# Altium schematic symbol library Pi.SchLib: 21 symbols
Pins are listed as number, name and electrical type; pins without a type are passive.

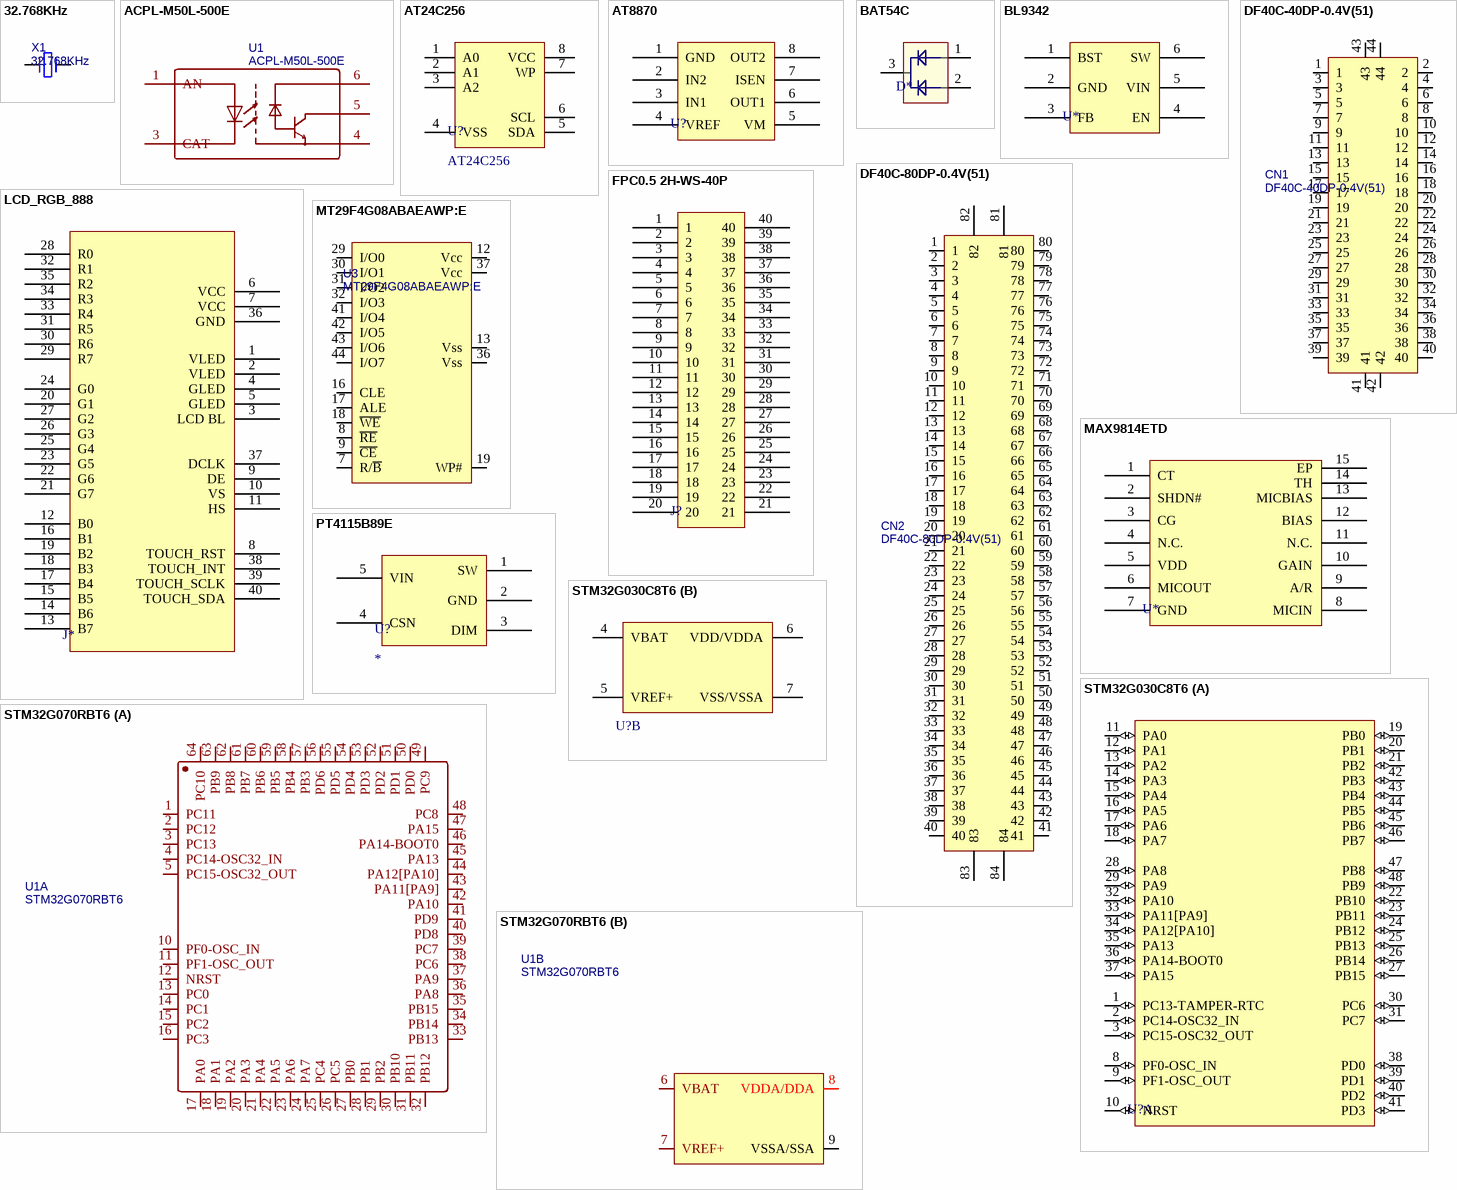
[diagram p0: symbols 32.768KHz to STM32G070RBT6]

## 32.768KHz
designator X1
立创商城:C48615; BOM_Manufacturer Part: Q13FC1350000200; BOM_Manufacturer: EPSON; nameAlias: Frequency; BOM_Supplier: LCSC; BOM_Supplier Part: C48615; BOM_JLCPCB Part Class: Extended Part; spicePre: X; spiceSymbolName: Q13FC1350000200
footprint SMD3215-2P
pins: 1, 2

## ACPL-M50L-500E
designator U1
BOM_Manufacturer: AVAGO; BOM_Supplier: LCSC; BOM_Manufacturer Part: ACPL-M50L-500E; BOM_Supplier Part: C54677; BOM_JLCPCB Part Class: Extended Part; spicePre: U; spiceSymbolName: ACPL-M50L-500E
footprint SO-5
pins: 1 AN, 3 CAT, 4 EM, 5 COL, 6 VCC

## AT24C256
designator U?
EEROM存储器; 联系卖家，免费查找封装: 唯一出售店铺网址https://shop463601444.taobao.com
footprint SOIC-8
pins: 1 A0, 2 A1, 3 A2, 4 VSS, 5 SDA, 6 SCL, 7 WP, 8 VCC

## AT8870
designator U?
footprint ESOP8_L (5*6*1.8mm（长宽高）)
pins: 1 GND, 2 IN2, 3 IN1, 4 VREF, 5 VM, 6 OUT1, 7 ISEN, 8 OUT2

## BAT54C
designator D*  (value not drawn)
两路肖特基二极管
footprint SOT23-3L
pins: 1, 2, 3

## BL9342
designator U*  (value not drawn)
footprint SOT23-6L
pins: 1 BST, 2 GND, 3 FB, 4 EN, 5 VIN, 6 SW

## DF40C-40DP-0.4V(51)
designator CN1
C424643; BOM_Manufacturer: HRS(广濑); Contributor: LCSC; BOM_Supplier: LCSC; BOM_Supplier Part: C424643; BOM_Manufacturer Part: DF40C-40DP-0.4V(51); BOM_JLCPCB Part Class: Extended Part; spicePre: C; spiceSymbolName: DF40C-40DP-0.4V(51)
footprint DF40C-40DP-0.4V
pins: 1, 2, 3, 4, 5, 6, 7, 8, 9, 10, 11, 12, 13, 14, 15, 16, 17, 18, 19, 20, 21, 22, 23, 24, 25, 26, 27, 28, 29, 30, 31, 32, 33, 34, 35, 36, 37, 38, 39, 40, 41, 42, 43, 44

## DF40C-80DP-0.4V(51)
designator CN2
BOM_Manufacturer: HRS(Hirose); Contributor: LCSC; BOM_Supplier: LCSC; BOM_Supplier Part: C294544; BOM_Manufacturer Part: DF40C-80DP-0.4V(51); BOM_JLCPCB Part Class: Extended Part; spicePre: C; spiceSymbolName: DF40C-80DP-0.4V(51)
footprint DF40C-80DP-0.4V
pins: 1, 2, 3, 4, 5, 6, 7, 8, 9, 10, 11, 12, 13, 14, 15, 16, 17, 18, 19, 20, 21, 22, 23, 24, 25, 26, 27, 28, 29, 30, 31, 32, 33, 34, 35, 36, 37, 38, 39, 40, 41, 42, 43, 44, 45, 46, 47, 48, 49, 50, 51, 52, 53, 54, 55, 56, 57, 58, 59, 60, 61, 62, 63, 64, 65, 66, 67, 68, 69, 70, 71, 72, 73, 74, 75, 76, 77, 78, 79, 80, 81, 82, 83, 84

## FPC0.5 2H-WS-40P
designator J?
FPC0.5 2H-WS-40P
footprint FPC0.5 2H-WS-40P
pins: 1, 2, 3, 4, 5, 6, 7, 8, 9, 10, 11, 12, 13, 14, 15, 16, 17, 18, 19, 20, 21, 22, 23, 24, 25, 26, 27, 28, 29, 30, 31, 32, 33, 34, 35, 36, 37, 38, 39, 40

## LCD_RGB_888
designator J*
AT070TN83 或者反客
footprint FPC0.5 2H-WS-40P
pins: 1 VLED, 2 VLED, 3 LCD BL, 4 GLED, 5 GLED, 6 VCC, 7 VCC, 8 TOUCH_RST, 9 DE, 10 VS, 11 HS, 12 B0, 13 B7, 14 B6, 15 B5, 16 B1, 17 B4, 18 B3, 19 B2, 20 G1, 21 G7, 22 G6, 23 G5, 24 G0, 25 G4, 26 G3, 27 G2, 28 R0, 29 R7, 30 R6, 31 R5, 32 R1, 33 R4, 34 R3, 35 R2, 36 GND, 37 DCLK, 38 TOUCH_INT, 39 TOUCH_SCLK, 40 TOUCH_SDA

## MAX9814ETD
designator U*
footprint TDFN-14
pins: 1 CT, 2 SHDN#, 3 CG, 4 N.C., 5 VDD, 6 MICOUT, 7 GND, 8 MICIN, 9 A/R, 10 GAIN, 11 N.C., 12 BIAS, 13 MICBIAS, 14 TH, 15 EP

## MT29F4G08ABAEAWP:E
designator U3
C496612; BOM_Manufacturer: micron(镁光); Contributor: LCSC; BOM_Supplier: LCSC; BOM_Supplier Part: C496612; BOM_Manufacturer Part: MT29F4G08ABAEAWP:E; BOM_JLCPCB Part Class: Extended Part; spicePre: U; spiceSymbolName: MT29F4G08ABAEAWP:E
footprint TSOP-48
pins: 1 NC hidden, 2 NC hidden, 3 NC hidden, 4 NC hidden, 5 NC hidden, 6 NC hidden, 7 R/~{B}, 8 ~{RE}, 9 ~{CE}, 10 NC hidden, 11 NC hidden, 12 Vcc, 13 Vss, 14 NC hidden, 15 NC hidden, 16 CLE, 17 ALE, 18 ~{WE}, 19 WP#, 20 DNU hidden, 21 DNU hidden, 22 DNU hidden, 23 NC hidden, 24 NC hidden, 25 NC hidden, 26 NC hidden, 27 NC hidden, 28 NC hidden, 29 I/O0, 30 I/O1, 31 I/O2, 32 I/O3, 33 NC hidden, 34 NC hidden, 35 NC hidden, 36 Vss, 37 Vcc, 38 PRE/VSS hidden, 39 NC hidden, 40 NC hidden, 41 I/O4, 42 I/O5, 43 I/O6, 44 I/O7, 45 NC hidden, 46 NC hidden, 47 NC hidden, 48 NC hidden

## PT4115B89E
designator U?
footprint SOT89-5
pins: 1 SW, 2 GND, 3 DIM, 4 CSN, 5 VIN

## STM32G030C8T6
designator U?
footprint LQFP48_L (Thin QFP, 48-Leads, Body 7x7mm, Pitch 0.5mm, IPC High Density)
part A pins: 1 PC13-TAMPER-RTC (io), 2 PC14-OSC32_IN (io), 3 PC15-OSC32_OUT (io), 8 PF0-OSC_IN (io), 9 PF1-OSC_OUT (io), 10 NRST (io), 11 PA0 (io), 12 PA1 (io), 13 PA2 (io), 14 PA3 (io), 15 PA4 (io), 16 PA5 (io), 17 PA6 (io), 18 PA7 (io), 19 PB0 (io), 20 PB1 (io), 21 PB2 (io), 22 PB10 (io), 23 PB11 (io), 24 PB12 (io), 25 PB13 (io), 26 PB14 (io), 27 PB15 (io), 28 PA8 (io), 29 PA9 (io), 30 PC6 (io), 31 PC7 (io), 32 PA10 (io), 33 PA11[PA9] (io), 34 PA12[PA10] (io), 35 PA13 (io), 36 PA14-BOOT0 (io), 37 PA15 (io), 38 PD0 (io), 39 PD1 (io), 40 PD2 (io), 41 PD3 (io), 42 PB3 (io), 43 PB4 (io), 44 PB5 (io), 45 PB6 (io), 46 PB7 (io), 47 PB8 (io), 48 PB9 (io)
part B pins: 4 VBAT (power), 5 VREF+ (power), 6 VDD/VDDA (power), 7 VSS/VSSA (power)

## STM32G070RBT6
designator U1
BOM_Manufacturer: STMicroelectronics; Contributor: LCSC; BOM_Supplier: LCSC; BOM_Supplier Part: C529340; BOM_Manufacturer Part: STM32G070RBT6; BOM_JLCPCB Part Class: Extended Part; spicePre: U; spiceSymbolName: STM32G070RBT6
footprint LQFP64
part A pins: 1 PC11, 2 PC12, 3 PC13, 4 PC14-OSC32_IN, 5 PC15-OSC32_OUT, 10 PF0-OSC_IN, 11 PF1-OSC_OUT, 12 NRST, 13 PC0, 14 PC1, 15 PC2, 16 PC3, 17 PA0, 18 PA1, 19 PA2, 20 PA3, 21 PA4, 22 PA5, 23 PA6, 24 PA7, 25 PC4, 26 PC5, 27 PB0, 28 PB1, 29 PB2, 30 PB10, 31 PB11, 32 PB12, 33 PB13, 34 PB14, 35 PB15, 36 PA8, 37 PA9, 38 PC6, 39 PC7, 40 PD8, 41 PD9, 42 PA10, 43 PA11[PA9], 44 PA12[PA10], 45 PA13, 46 PA14-BOOT0, 47 PA15, 48 PC8, 49 PC9, 50 PD0, 51 PD1, 52 PD2, 53 PD3, 54 PD4, 55 PD5, 56 PD6, 57 PB3, 58 PB4, 59 PB5, 60 PB6, 61 PB7, 62 PB8, 63 PB9, 64 PC10
part B pins: 6 VBAT, 7 VREF+, 8 VDDA/DDA, 9 VSSA/SSA

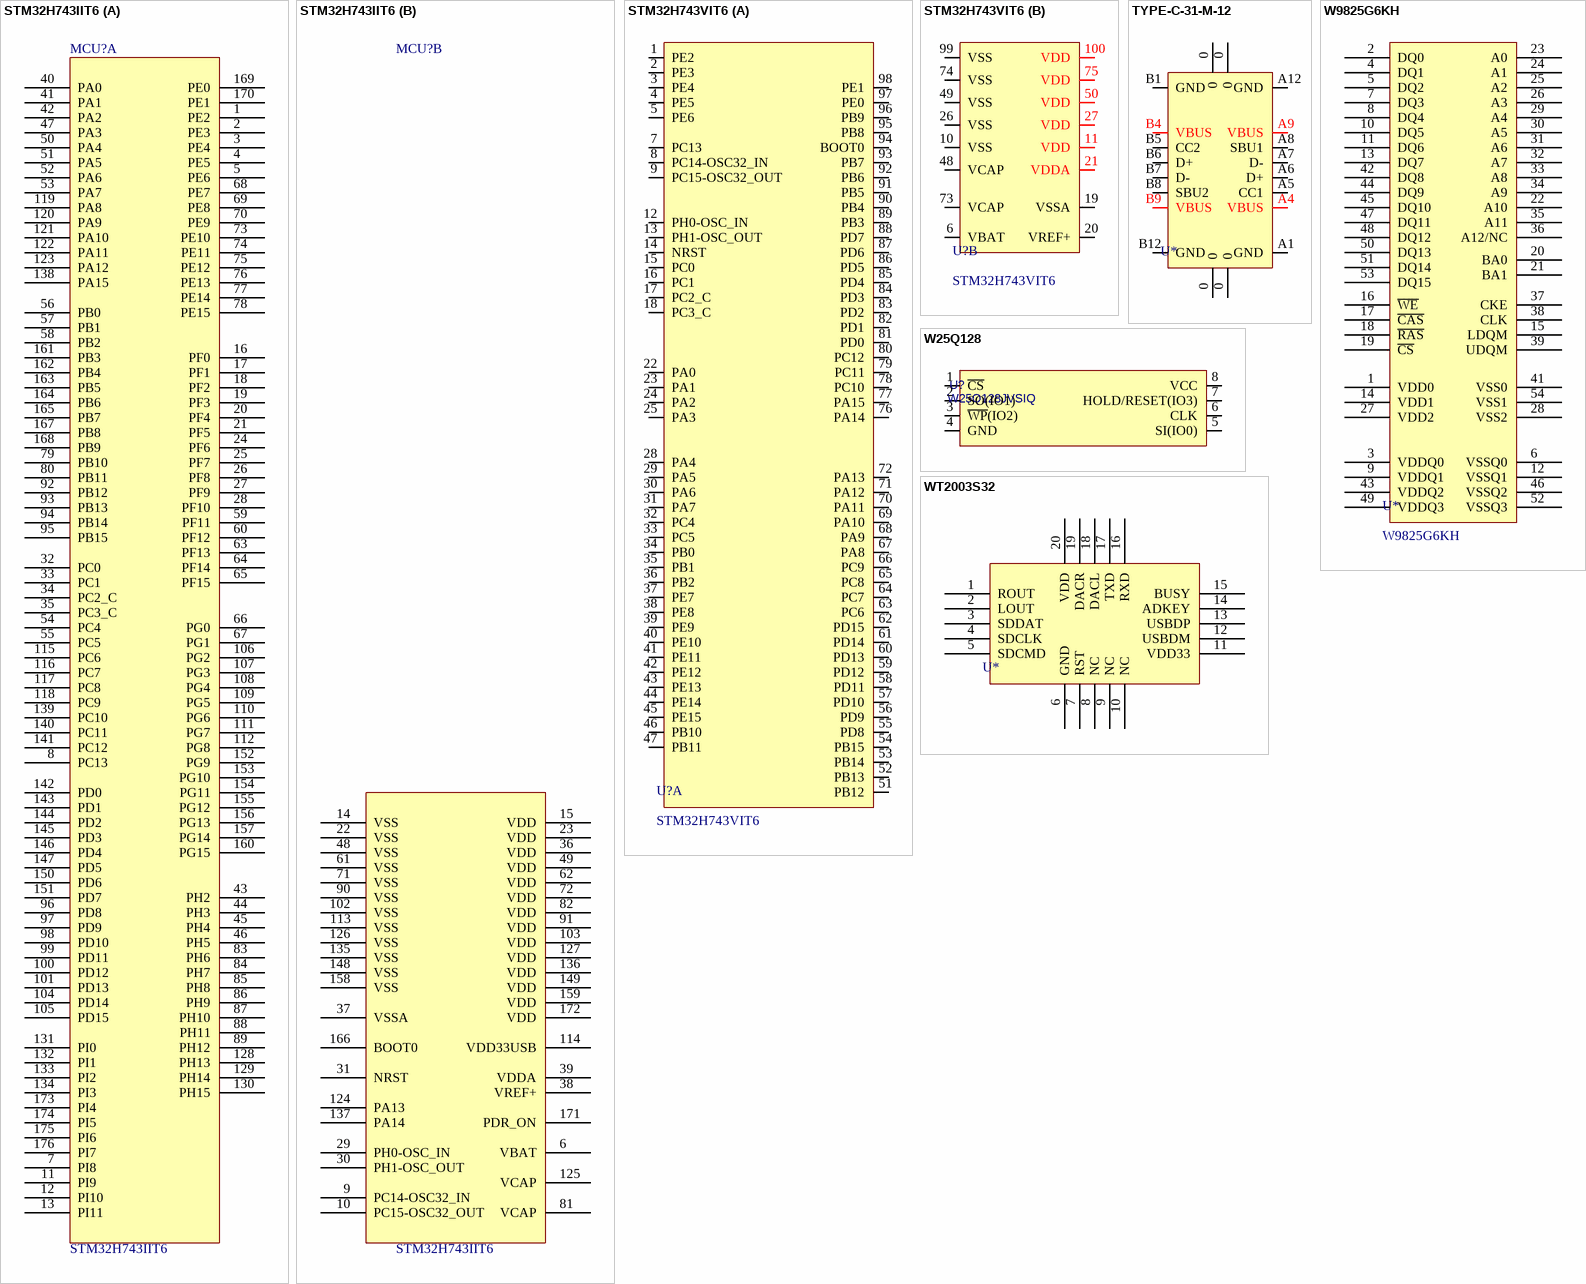
[diagram p1: symbols STM32H743IIT6 to WT2003S32]

## STM32H743IIT6
designator MCU?
footprint LQFT-176
part A pins: 1 PE2, 2 PE3, 3 PE4, 4 PE5, 5 PE6, 7 PI8, 8 PC13, 11 PI9, 12 PI10, 13 PI11, 16 PF0, 17 PF1, 18 PF2, 19 PF3, 20 PF4, 21 PF5, 24 PF6, 25 PF7, 26 PF8, 27 PF9, 28 PF10, 32 PC0, 33 PC1, 34 PC2_C, 35 PC3_C, 40 PA0, 41 PA1, 42 PA2, 43 PH2, 44 PH3, 45 PH4, 46 PH5, 47 PA3, 50 PA4, 51 PA5, 52 PA6, 53 PA7, 54 PC4, 55 PC5, 56 PB0, 57 PB1, 58 PB2, 59 PF11, 60 PF12, 63 PF13, 64 PF14, 65 PF15, 66 PG0, 67 PG1, 68 PE7, 69 PE8, 70 PE9, 73 PE10, 74 PE11, 75 PE12, 76 PE13, 77 PE14, 78 PE15, 79 PB10, 80 PB11, 83 PH6, 84 PH7, 85 PH8, 86 PH9, 87 PH10, 88 PH11, 89 PH12, 92 PB12, 93 PB13, 94 PB14, 95 PB15, 96 PD8, 97 PD9, 98 PD10, 99 PD11, 100 PD12, 101 PD13, 104 PD14, 105 PD15, 106 PG2, 107 PG3, 108 PG4, 109 PG5, 110 PG6, 111 PG7, 112 PG8, 115 PC6, 116 PC7, 117 PC8, 118 PC9, 119 PA8, 120 PA9, 121 PA10, 122 PA11, 123 PA12, 128 PH13, 129 PH14, 130 PH15, 131 PI0, 132 PI1, 133 PI2, 134 PI3, 138 PA15, 139 PC10, 140 PC11, 141 PC12, 142 PD0, 143 PD1, 144 PD2, 145 PD3, 146 PD4, 147 PD5, 150 PD6, 151 PD7, 152 PG9, 153 PG10, 154 PG11, 155 PG12, 156 PG13, 157 PG14, 160 PG15, 161 PB3, 162 PB4, 163 PB5, 164 PB6, 165 PB7, 167 PB8, 168 PB9, 169 PE0, 170 PE1, 173 PI4, 174 PI5, 175 PI6, 176 PI7
part B pins: 6 VBAT, 9 PC14-OSC32_IN, 10 PC15-OSC32_OUT, 14 VSS, 15 VDD, 22 VSS, 23 VDD, 29 PH0-OSC_IN, 30 PH1-OSC_OUT, 31 NRST, 36 VDD, 37 VSSA, 38 VREF+, 39 VDDA, 48 VSS, 49 VDD, 61 VSS, 62 VDD, 71 VSS, 72 VDD, 81 VCAP, 82 VDD, 90 VSS, 91 VDD, 102 VSS, 103 VDD, 113 VSS, 114 VDD33USB, 124 PA13, 125 VCAP, 126 VSS, 127 VDD, 135 VSS, 136 VDD, 137 PA14, 148 VSS, 149 VDD, 158 VSS, 159 VDD, 166 BOOT0, 171 PDR_ON, 172 VDD

## STM32H743VIT6
designator U?
footprint LQFP-100
part A pins: 1 PE2, 2 PE3, 3 PE4, 4 PE5, 5 PE6, 7 PC13, 8 PC14-OSC32_IN, 9 PC15-OSC32_OUT, 12 PH0-OSC_IN, 13 PH1-OSC_OUT, 14 NRST, 15 PC0, 16 PC1, 17 PC2_C, 18 PC3_C, 22 PA0, 23 PA1, 24 PA2, 25 PA3, 28 PA4, 29 PA5, 30 PA6, 31 PA7, 32 PC4, 33 PC5, 34 PB0, 35 PB1, 36 PB2, 37 PE7, 38 PE8, 39 PE9, 40 PE10, 41 PE11, 42 PE12, 43 PE13, 44 PE14, 45 PE15, 46 PB10, 47 PB11, 51 PB12, 52 PB13, 53 PB14, 54 PB15, 55 PD8, 56 PD9, 57 PD10, 58 PD11, 59 PD12, 60 PD13, 61 PD14, 62 PD15, 63 PC6, 64 PC7, 65 PC8, 66 PC9, 67 PA8, 68 PA9, 69 PA10, 70 PA11, 71 PA12, 72 PA13, 76 PA14, 77 PA15, 78 PC10, 79 PC11, 80 PC12, 81 PD0, 82 PD1, 83 PD2, 84 PD3, 85 PD4, 86 PD5, 87 PD6, 88 PD7, 89 PB3, 90 PB4, 91 PB5, 92 PB6, 93 PB7, 94 BOOT0, 95 PB8, 96 PB9, 97 PE0, 98 PE1
part B pins: 6 VBAT, 10 VSS, 11 VDD, 19 VSSA, 20 VREF+, 21 VDDA, 26 VSS, 27 VDD, 48 VCAP, 49 VSS, 50 VDD, 73 VCAP, 74 VSS, 75 VDD, 99 VSS, 100 VDD

## TYPE-C-31-M-12
designator U*
C165948
footprint TYPE-C-31-M-12
pins: 0, 0, 0, 0, A1 GND, A4 VBUS, A5 CC1, A6 D+, A7 D-, A8 SBU1, A9 VBUS, A12 GND, B1 GND, B4 VBUS, B5 CC2, B6 D+, B7 D-, B8 SBU2, B9 VBUS, B12 GND

## W25Q128
designator U?, comment W25Q128JVSIQ
SPI FLASH; 封装库来自 淘宝卖家 ID：黄晶宝石: 其他店铺购入均为盗版假冒封装库，请立即申请退款
footprint SOIC-8
pins: 1 ~{CS}, 2 SO(IO1), 3 ~{WP}(IO2), 4 GND, 5 SI(IO0), 6 CLK, 7 HOLD/RESET(IO3), 8 VCC

## W9825G6KH
designator U*
C97572
footprint TSOP-54
pins: 1 VDD0, 2 DQ0, 3 VDDQ0, 4 DQ1, 5 DQ2, 6 VSSQ0, 7 DQ3, 8 DQ4, 9 VDDQ1, 10 DQ5, 11 DQ6, 12 VSSQ1, 13 DQ7, 14 VDD1, 15 LDQM, 16 ~{WE}, 17 ~{CAS}, 18 ~{RAS}, 19 ~{CS}, 20 BA0, 21 BA1, 22 A10, 23 A0, 24 A1, 25 A2, 26 A3, 27 VDD2, 28 VSS2, 29 A4, 30 A5, 31 A6, 32 A7, 33 A8, 34 A9, 35 A11, 36 A12/NC, 37 CKE, 38 CLK, 39 UDQM, 41 VSS0, 42 DQ8, 43 VDDQ2, 44 DQ9, 45 DQ10, 46 VSSQ2, 47 DQ11, 48 DQ12, 49 VDDQ3, 50 DQ13, 51 DQ14, 52 VSSQ3, 53 DQ15, 54 VSS1

## WT2003S32
designator U*  (value not drawn)
footprint QFN-20
pins: 1 ROUT, 2 LOUT, 3 SDDAT, 4 SDCLK, 5 SDCMD, 6 GND, 7 RST, 8 NC, 9 NC, 10 NC, 11 VDD33, 12 USBDM, 13 USBDP, 14 ADKEY, 15 BUSY, 16 RXD, 17 TXD, 18 DACL, 19 DACR, 20 VDD